# EAGLE library part MC33926PNBR2 (library LED Driver)
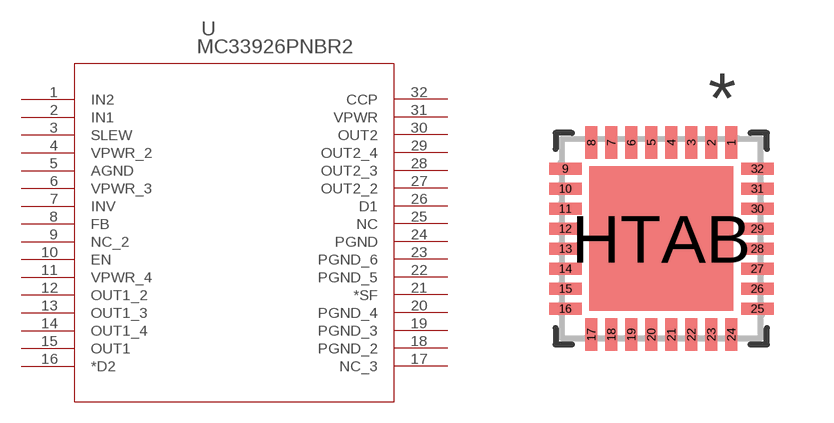
[diagram p0: symbol with the pads of QFN32; footprint QFN32]

Designator prefix -

## MC33926PNBR2 (COPYRIGHT: Copyright C 2015 Accelerated Designs. All rights reserved; MANUFACTURER_PART_NUMBER: mc33926pnbr2; VENDOR: Freescale)  [QFN32]
1  IN2  in
2  IN1  in
3  SLEW  in
4  VPWR_2  pwr
5  AGND  pwr
6  VPWR_3  pwr
7  INV  in
8  FB  out
9  NC_2  pas
10  EN  in
11  VPWR_4  pwr
12  OUT1_2  out
13  OUT1_3  out
14  OUT1_4  out
15  OUT1  out
16  *D2  in
17  NC_3  pas
18  PGND_2  pwr
19  PGND_3  pwr
20  PGND_4  pwr
21  *SF  out
22  PGND_5  pwr
23  PGND_6  pwr
24  PGND  pwr
25  NC  pas
26  D1  in
27  OUT2_2  out
28  OUT2_3  out
29  OUT2_4  out
30  OUT2  out
31  VPWR  pwr
32  CCP  out

## Footprint QFN32 (pad centres in mm)
smd 0.305 x 0.813: 1 1.75,2.4; 2 1.25,2.4; 3 0.75,2.4; 4 0.25,2.4; 5 -0.25,2.4; 6 -0.75,2.4; 7 -1.25,2.4; 8 -1.75,2.4; 17 -1.75,-2.4; 18 -1.25,-2.4; 19 -0.75,-2.4; 20 -0.25,-2.4; 21 0.25,-2.4; 22 0.75,-2.4; 23 1.25,-2.4; 24 1.75,-2.4
smd 0.813 x 0.305: 9 -2.4,1.75; 10 -2.4,1.25; 11 -2.4,0.75; 12 -2.4,0.25; 13 -2.4,-0.25; 14 -2.4,-0.75; 15 -2.4,-1.25; 16 -2.4,-1.75; 25 2.4,-1.75; 26 2.4,-1.25; 27 2.4,-0.75; 28 2.4,-0.25; 29 2.4,0.25; 30 2.4,0.75; 31 2.4,1.25; 32 2.4,1.75
smd 3.607 x 3.607: HTAB 0,0